# EAGLE library part PAEN_RPI (library PA(EN)_Components_Library)
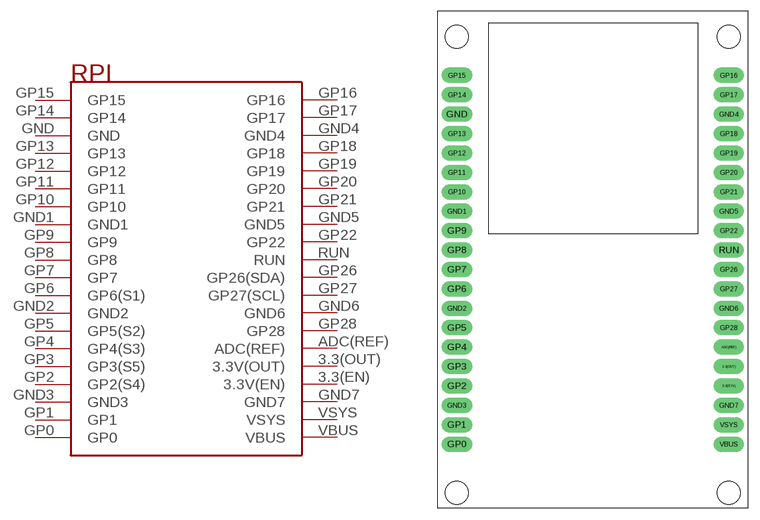
[diagram p10: symbol with the pads of PAEN_RPI_TH; footprint PAEN_RPI_TH]

Designator prefix -

## PAEN_RPI  [PAEN_RPI_TH]
3.3(EN)  3.3V(EN)
3.3(OUT)  3.3V(OUT)
ADC(REF)  ADC(REF)
GND  GND
GND1  GND1
GND2  GND2
GND3  GND3
GND4  GND4
GND5  GND5
GND6  GND6
GND7  GND7
GP0  GP0
GP1  GP1
GP2  GP2(S4)
GP3  GP3(S5)
GP4  GP4(S3)
GP5  GP5(S2)
GP6  GP6(S1)
GP7  GP7
GP8  GP8
GP9  GP9
GP10  GP10
GP11  GP11
GP12  GP12
GP13  GP13
GP14  GP14
GP15  GP15
GP16  GP16
GP17  GP17
GP18  GP18
GP19  GP19
GP20  GP20
GP21  GP21
GP22  GP22
GP26  GP26(SDA)
GP27  GP27(SCL)
GP28  GP28
RUN  RUN
VBUS  VBUS
VSYS  VSYS

## Footprint PAEN_RPI_TH (pad centres in mm)
drill 1 pad 2 long: 3.3(EN) 16.51,-15.24; 3.3(OUT) 16.51,-12.7; ADC(REF) 16.51,-10.16; GND -19.05,20.32; GND1 -19.05,7.62; GND2 -19.05,-5.08; GND3 -19.05,-17.78; GND4 16.51,20.32; GND5 16.51,7.62; GND6 16.51,-5.08; GND7 16.51,-17.78; GP0 -19.05,-22.86; GP1 -19.05,-20.32; GP2 -19.05,-15.24; GP3 -19.05,-12.7; GP4 -19.05,-10.16; GP5 -19.05,-7.62; GP6 -19.05,-2.54; GP7 -19.05,0; GP8 -19.05,2.54; GP9 -19.05,5.08; GP10 -19.05,10.16; GP11 -19.05,12.7; GP12 -19.05,15.24; GP13 -19.05,17.78; GP14 -19.05,22.86; GP15 -19.05,25.4; GP16 16.51,25.4; GP17 16.51,22.86; GP18 16.51,17.78; GP19 16.51,15.24; GP20 16.51,12.7; GP21 16.51,10.16; GP22 16.51,5.08; GP26 16.51,0; GP27 16.51,-2.54; GP28 16.51,-7.62; RUN 16.51,2.54; VBUS 16.51,-22.86; VSYS 16.51,-20.32
hole 3 at -19.05,-29.21
hole 3 at 16.51,-29.21
hole 3 at 16.51,30.48
hole 3 at -19.05,30.48